# Altium integrated library Microchip Microcontroller 8-Bit PIC14.IntLib: 21 symbols
Pins are listed as number, name and electrical type; pins without a type are passive.

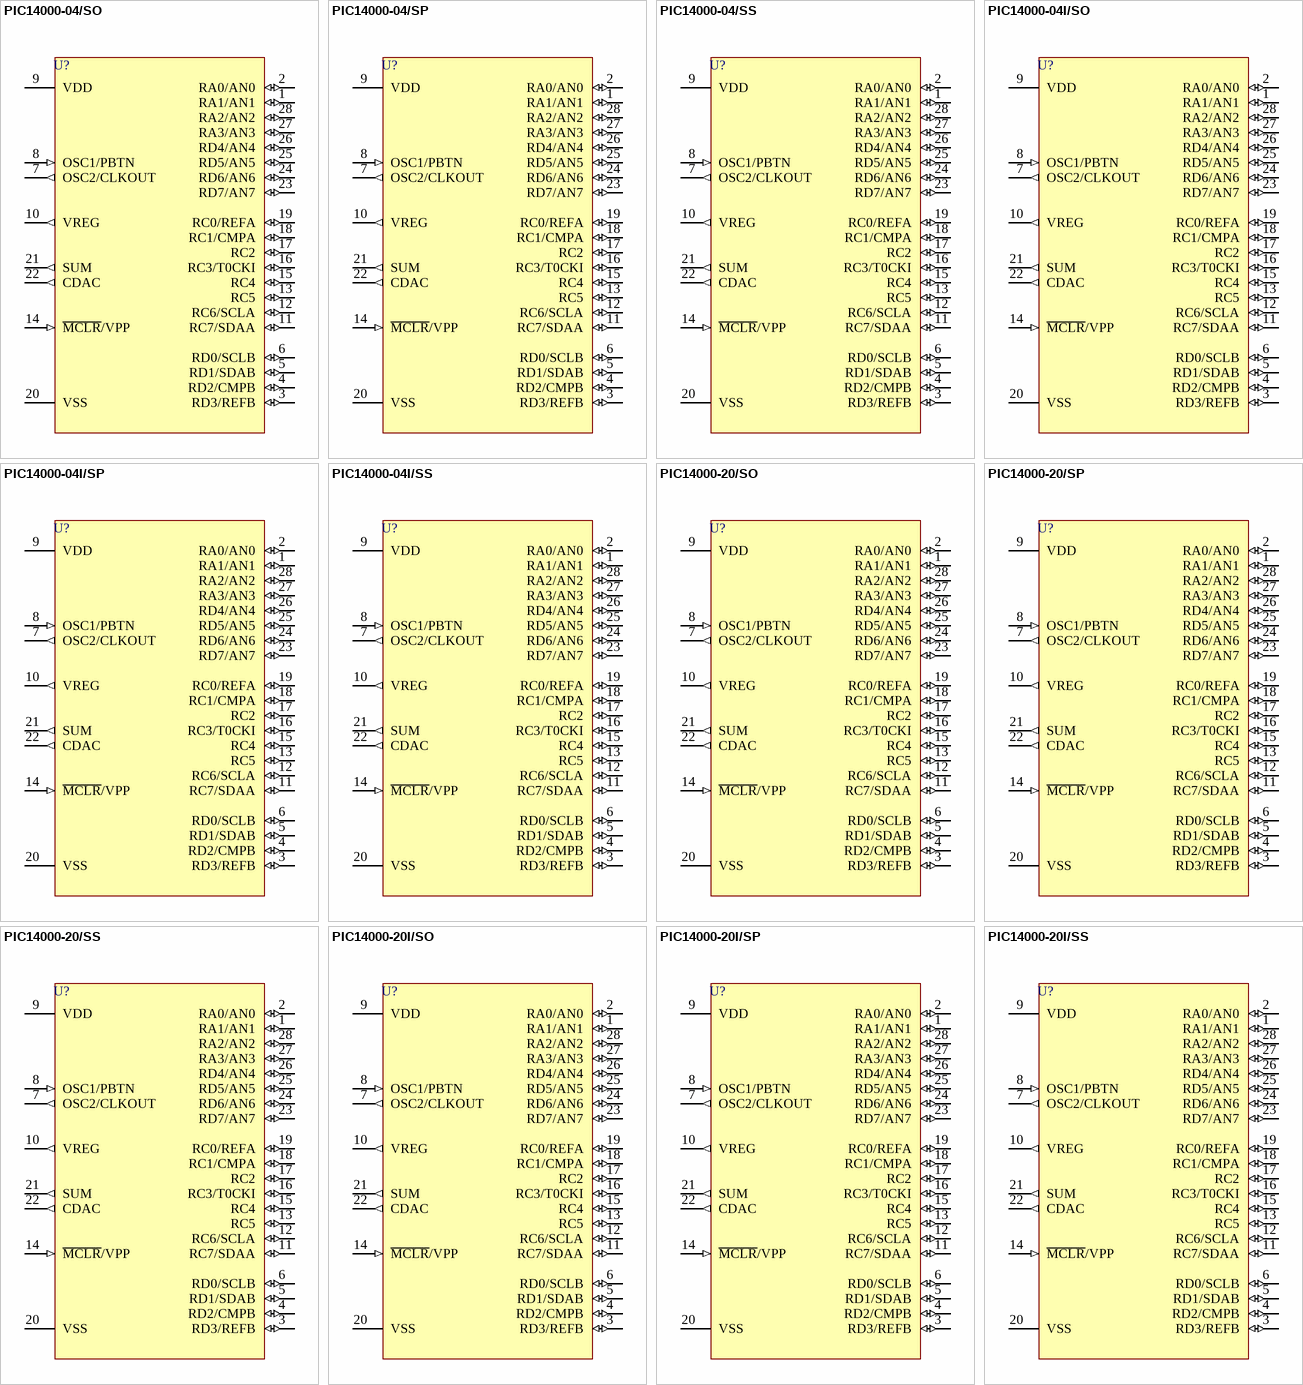
[diagram p0: symbols PIC14000-04/SO to PIC14000-20I/SS]

## PIC14000-04/SO
designator U?
Programmable OTP-Based 8-Bit Mixed Signal Microcontroller, 4 MHz, 28-Pin SOIC, Commercial Temperature; Published: 11-Oct-2004; LatestRevisionDate: 13-Apr-2006; LatestRevisionNote: IPC-7351 Footprint Added.; DatasheetVersion: DS40122B_1996; PackageVersion: 2005; PackageReference: SOIC300-28; Publisher: Altium Limited; PackageDescription: 28-Pin Small Outline Integrated Circuit 1.27 mm Pitch; Code_JEDEC: MS-013; ComponentLink1Description: Manufacturer Link; ComponentLink1URL: http://www.microchip.com; ComponentLink2Description: Datasheet; ComponentLink2URL: http://ww1.microchip.com/downloads/en/DeviceDoc/40122b.pdf; ComponentLink3Description: Packaging Specification; ComponentLink3URL: http://ww1.microchip.com/downloads/en/PackagingSpec/00049AD.pdf
footprint SOIC300-28_N (SOIC, 28-Leads, Body 17.9x7.5mm, Pitch 1.27mm, IPC Medium Density)
footprint SOIC300-28_L (SOIC, 28-Leads, Body 17.9x7.5mm, Pitch 1.27mm, IPC High Density)
footprint SOIC300-28_M (SOIC, 28-Leads, Body 17.9x7.5mm, Pitch 1.27mm, IPC Low Density)
3D model SOIC300-28 (28-Pin Small Outline Integrated Circuit 1.27 mm Pitch)
pins: 1 RA1/AN1 (io), 2 RA0/AN0 (io), 3 RD3/REFB (io), 4 RD2/CMPB (io), 5 RD1/SDAB (io), 6 RD0/SCLB (io), 7 OSC2/CLKOUT (out), 8 OSC1/PBTN (in), 9 VDD (power), 10 VREG (out), 11 RC7/SDAA (io), 12 RC6/SCLA (io), 13 RC5 (io), 14 ~{MCLR}/VPP (in), 15 RC4 (io), 16 RC3/T0CKI (io), 17 RC2 (io), 18 RC1/CMPA (io), 19 RC0/REFA (io), 20 VSS (power), 21 SUM (out), 22 CDAC (out), 23 RD7/AN7 (io), 24 RD6/AN6 (io), 25 RD5/AN5 (io), 26 RD4/AN4 (io), 27 RA3/AN3 (io), 28 RA2/AN2 (io)

## PIC14000-04/SP
designator U?
Programmable OTP-Based 8-Bit Mixed Signal Microcontroller, 4 MHz, 28-Pin PDIP, Commercial Temperature; Published: 11-Oct-2004; LatestRevisionDate: 04-Mar-2005; LatestRevisionNote: Stylized 3D Model Added.; DatasheetVersion: DS40122B_1996; PackageVersion: 2003; PackageReference: PDIP300-28; Publisher: Altium Limited; PackageDescription: DIP, Plastic, Skinny; 28 Leads; Row Spacing 7.62 mm; Pitch 2.54 mm; Code_JEDEC: MO-095; ComponentLink1Description: Manufacturer Link; ComponentLink1URL: http://www.microchip.com; ComponentLink2Description: Datasheet; ComponentLink2URL: http://ww1.microchip.com/downloads/en/DeviceDoc/40122b.pdf; ComponentLink3Description: Packaging Specification; ComponentLink3URL: http://ww1.microchip.com/downloads/en/PackagingSpec/00049AD.pdf
footprint PDIP300-28 (DIP, Plastic, Skinny; 28 Leads; Row Spacing 7.62 mm; Pitch 2.54 mm)
3D model PDIP300-28 (DIP, Plastic, Skinny; 28 Leads; Row Spacing 7.62 mm; Pitch 2.54 mm)
pins: 1 RA1/AN1 (io), 2 RA0/AN0 (io), 3 RD3/REFB (io), 4 RD2/CMPB (io), 5 RD1/SDAB (io), 6 RD0/SCLB (io), 7 OSC2/CLKOUT (out), 8 OSC1/PBTN (in), 9 VDD (power), 10 VREG (out), 11 RC7/SDAA (io), 12 RC6/SCLA (io), 13 RC5 (io), 14 ~{MCLR}/VPP (in), 15 RC4 (io), 16 RC3/T0CKI (io), 17 RC2 (io), 18 RC1/CMPA (io), 19 RC0/REFA (io), 20 VSS (power), 21 SUM (out), 22 CDAC (out), 23 RD7/AN7 (io), 24 RD6/AN6 (io), 25 RD5/AN5 (io), 26 RD4/AN4 (io), 27 RA3/AN3 (io), 28 RA2/AN2 (io)

## PIC14000-04/SS
designator U?
Programmable OTP-Based 8-Bit Mixed Signal Microcontroller, 4 MHz, 28-Pin SSOP, Commercial Temperature; Published: 11-Oct-2004; LatestRevisionDate: 04-Mar-2005; LatestRevisionNote: Stylized 3D Model Added.; DatasheetVersion: DS40122B_1996; PackageVersion: 2005; PackageReference: SSOP-28; Publisher: Altium Limited; PackageDescription: SSOP, Plastic; 28 Leads; Body Width 5.2 mm; Pitch 0.65 mm; Code_JEDEC: MS-150; ComponentLink1Description: Manufacturer Link; ComponentLink1URL: http://www.microchip.com; ComponentLink2Description: Datasheet; ComponentLink2URL: http://ww1.microchip.com/downloads/en/DeviceDoc/40122b.pdf; ComponentLink3Description: Packaging Specification; ComponentLink3URL: http://ww1.microchip.com/downloads/en/PackagingSpec/00049AD.pdf
footprint SSOP-28 (SSOP, Plastic; 28 Leads; Body Width 5.2 mm; Pitch 0.65 mm)
3D model SSOP-28 (SSOP, Plastic; 28 Leads; Body Width 5.2 mm; Pitch 0.65 mm)
pins: 1 RA1/AN1 (io), 2 RA0/AN0 (io), 3 RD3/REFB (io), 4 RD2/CMPB (io), 5 RD1/SDAB (io), 6 RD0/SCLB (io), 7 OSC2/CLKOUT (out), 8 OSC1/PBTN (in), 9 VDD (power), 10 VREG (out), 11 RC7/SDAA (io), 12 RC6/SCLA (io), 13 RC5 (io), 14 ~{MCLR}/VPP (in), 15 RC4 (io), 16 RC3/T0CKI (io), 17 RC2 (io), 18 RC1/CMPA (io), 19 RC0/REFA (io), 20 VSS (power), 21 SUM (out), 22 CDAC (out), 23 RD7/AN7 (io), 24 RD6/AN6 (io), 25 RD5/AN5 (io), 26 RD4/AN4 (io), 27 RA3/AN3 (io), 28 RA2/AN2 (io)

## PIC14000-04I/SO
designator U?
Programmable OTP-Based 8-Bit Mixed Signal Microcontroller, 4 MHz, 28-Pin SOIC, Industrial Temperature; Published: 11-Oct-2004; LatestRevisionDate: 13-Apr-2006; LatestRevisionNote: IPC-7351 Footprint Added.; DatasheetVersion: DS40122B_1996; PackageVersion: 2005; PackageReference: SOIC300-28; Publisher: Altium Limited; PackageDescription: 28-Pin Small Outline Integrated Circuit 1.27 mm Pitch; Code_JEDEC: MS-013; ComponentLink1Description: Manufacturer Link; ComponentLink1URL: http://www.microchip.com; ComponentLink2Description: Datasheet; ComponentLink2URL: http://ww1.microchip.com/downloads/en/DeviceDoc/40122b.pdf; ComponentLink3Description: Packaging Specification; ComponentLink3URL: http://ww1.microchip.com/downloads/en/PackagingSpec/00049AD.pdf
footprint SOIC300-28_N (SOIC, 28-Leads, Body 17.9x7.5mm, Pitch 1.27mm, IPC Medium Density)
footprint SOIC300-28_L (SOIC, 28-Leads, Body 17.9x7.5mm, Pitch 1.27mm, IPC High Density)
footprint SOIC300-28_M (SOIC, 28-Leads, Body 17.9x7.5mm, Pitch 1.27mm, IPC Low Density)
3D model SOIC300-28 (28-Pin Small Outline Integrated Circuit 1.27 mm Pitch)
pins: 1 RA1/AN1 (io), 2 RA0/AN0 (io), 3 RD3/REFB (io), 4 RD2/CMPB (io), 5 RD1/SDAB (io), 6 RD0/SCLB (io), 7 OSC2/CLKOUT (out), 8 OSC1/PBTN (in), 9 VDD (power), 10 VREG (out), 11 RC7/SDAA (io), 12 RC6/SCLA (io), 13 RC5 (io), 14 ~{MCLR}/VPP (in), 15 RC4 (io), 16 RC3/T0CKI (io), 17 RC2 (io), 18 RC1/CMPA (io), 19 RC0/REFA (io), 20 VSS (power), 21 SUM (out), 22 CDAC (out), 23 RD7/AN7 (io), 24 RD6/AN6 (io), 25 RD5/AN5 (io), 26 RD4/AN4 (io), 27 RA3/AN3 (io), 28 RA2/AN2 (io)

## PIC14000-04I/SP
designator U?
Programmable OTP-Based 8-Bit Mixed Signal Microcontroller, 4 MHz, 28-Pin PDIP, Industrial Temperature; Published: 11-Oct-2004; LatestRevisionDate: 04-Mar-2005; LatestRevisionNote: Stylized 3D Model Added.; DatasheetVersion: DS40122B_1996; PackageVersion: 2003; PackageReference: PDIP300-28; Publisher: Altium Limited; PackageDescription: DIP, Plastic, Skinny; 28 Leads; Row Spacing 7.62 mm; Pitch 2.54 mm; Code_JEDEC: MO-095; ComponentLink1Description: Manufacturer Link; ComponentLink1URL: http://www.microchip.com; ComponentLink2Description: Datasheet; ComponentLink2URL: http://ww1.microchip.com/downloads/en/DeviceDoc/40122b.pdf; ComponentLink3Description: Packaging Specification; ComponentLink3URL: http://ww1.microchip.com/downloads/en/PackagingSpec/00049AD.pdf
footprint PDIP300-28 (DIP, Plastic, Skinny; 28 Leads; Row Spacing 7.62 mm; Pitch 2.54 mm)
3D model PDIP300-28 (DIP, Plastic, Skinny; 28 Leads; Row Spacing 7.62 mm; Pitch 2.54 mm)
pins: 1 RA1/AN1 (io), 2 RA0/AN0 (io), 3 RD3/REFB (io), 4 RD2/CMPB (io), 5 RD1/SDAB (io), 6 RD0/SCLB (io), 7 OSC2/CLKOUT (out), 8 OSC1/PBTN (in), 9 VDD (power), 10 VREG (out), 11 RC7/SDAA (io), 12 RC6/SCLA (io), 13 RC5 (io), 14 ~{MCLR}/VPP (in), 15 RC4 (io), 16 RC3/T0CKI (io), 17 RC2 (io), 18 RC1/CMPA (io), 19 RC0/REFA (io), 20 VSS (power), 21 SUM (out), 22 CDAC (out), 23 RD7/AN7 (io), 24 RD6/AN6 (io), 25 RD5/AN5 (io), 26 RD4/AN4 (io), 27 RA3/AN3 (io), 28 RA2/AN2 (io)

## PIC14000-04I/SS
designator U?
Programmable OTP-Based 8-Bit Mixed Signal Microcontroller, 4 MHz, 28-Pin SSOP, Industrial Temperature; Published: 11-Oct-2004; LatestRevisionDate: 04-Mar-2005; LatestRevisionNote: Stylized 3D Model Added.; DatasheetVersion: DS40122B_1996; PackageVersion: 2005; PackageReference: SSOP-28; Publisher: Altium Limited; PackageDescription: SSOP, Plastic; 28 Leads; Body Width 5.2 mm; Pitch 0.65 mm; Code_JEDEC: MS-150; ComponentLink1Description: Manufacturer Link; ComponentLink1URL: http://www.microchip.com; ComponentLink2Description: Datasheet; ComponentLink2URL: http://ww1.microchip.com/downloads/en/DeviceDoc/40122b.pdf; ComponentLink3Description: Packaging Specification; ComponentLink3URL: http://ww1.microchip.com/downloads/en/PackagingSpec/00049AD.pdf
footprint SSOP-28 (SSOP, Plastic; 28 Leads; Body Width 5.2 mm; Pitch 0.65 mm)
3D model SSOP-28 (SSOP, Plastic; 28 Leads; Body Width 5.2 mm; Pitch 0.65 mm)
pins: 1 RA1/AN1 (io), 2 RA0/AN0 (io), 3 RD3/REFB (io), 4 RD2/CMPB (io), 5 RD1/SDAB (io), 6 RD0/SCLB (io), 7 OSC2/CLKOUT (out), 8 OSC1/PBTN (in), 9 VDD (power), 10 VREG (out), 11 RC7/SDAA (io), 12 RC6/SCLA (io), 13 RC5 (io), 14 ~{MCLR}/VPP (in), 15 RC4 (io), 16 RC3/T0CKI (io), 17 RC2 (io), 18 RC1/CMPA (io), 19 RC0/REFA (io), 20 VSS (power), 21 SUM (out), 22 CDAC (out), 23 RD7/AN7 (io), 24 RD6/AN6 (io), 25 RD5/AN5 (io), 26 RD4/AN4 (io), 27 RA3/AN3 (io), 28 RA2/AN2 (io)

## PIC14000-20/SO
designator U?
Programmable OTP-Based 8-Bit Mixed Signal Microcontroller, 20 MHz, 28-Pin SOIC, Commercial Temperature; Published: 11-Oct-2004; LatestRevisionDate: 13-Apr-2006; LatestRevisionNote: IPC-7351 Footprint Added.; DatasheetVersion: DS40122B_1996; PackageVersion: 2005; PackageReference: SOIC300-28; Publisher: Altium Limited; PackageDescription: 28-Pin Small Outline Integrated Circuit 1.27 mm Pitch; Code_JEDEC: MS-013; ComponentLink1Description: Manufacturer Link; ComponentLink1URL: http://www.microchip.com; ComponentLink2Description: Datasheet; ComponentLink2URL: http://ww1.microchip.com/downloads/en/DeviceDoc/40122b.pdf; ComponentLink3Description: Packaging Specification; ComponentLink3URL: http://ww1.microchip.com/downloads/en/PackagingSpec/00049AD.pdf
footprint SOIC300-28_N (SOIC, 28-Leads, Body 17.9x7.5mm, Pitch 1.27mm, IPC Medium Density)
footprint SOIC300-28_L (SOIC, 28-Leads, Body 17.9x7.5mm, Pitch 1.27mm, IPC High Density)
footprint SOIC300-28_M (SOIC, 28-Leads, Body 17.9x7.5mm, Pitch 1.27mm, IPC Low Density)
3D model SOIC300-28 (28-Pin Small Outline Integrated Circuit 1.27 mm Pitch)
pins: 1 RA1/AN1 (io), 2 RA0/AN0 (io), 3 RD3/REFB (io), 4 RD2/CMPB (io), 5 RD1/SDAB (io), 6 RD0/SCLB (io), 7 OSC2/CLKOUT (out), 8 OSC1/PBTN (in), 9 VDD (power), 10 VREG (out), 11 RC7/SDAA (io), 12 RC6/SCLA (io), 13 RC5 (io), 14 ~{MCLR}/VPP (in), 15 RC4 (io), 16 RC3/T0CKI (io), 17 RC2 (io), 18 RC1/CMPA (io), 19 RC0/REFA (io), 20 VSS (power), 21 SUM (out), 22 CDAC (out), 23 RD7/AN7 (io), 24 RD6/AN6 (io), 25 RD5/AN5 (io), 26 RD4/AN4 (io), 27 RA3/AN3 (io), 28 RA2/AN2 (io)

## PIC14000-20/SP
designator U?
Programmable OTP-Based 8-Bit Mixed Signal Microcontroller, 20 MHz, 28-Pin PDIP, Commercial Temperature; Published: 11-Oct-2004; LatestRevisionDate: 04-Mar-2005; LatestRevisionNote: Stylized 3D Model Added.; DatasheetVersion: DS40122B_1996; PackageVersion: 2003; PackageReference: PDIP300-28; Publisher: Altium Limited; PackageDescription: DIP, Plastic, Skinny; 28 Leads; Row Spacing 7.62 mm; Pitch 2.54 mm; Code_JEDEC: MO-095; ComponentLink1Description: Manufacturer Link; ComponentLink1URL: http://www.microchip.com; ComponentLink2Description: Datasheet; ComponentLink2URL: http://ww1.microchip.com/downloads/en/DeviceDoc/40122b.pdf; ComponentLink3Description: Packaging Specification; ComponentLink3URL: http://ww1.microchip.com/downloads/en/PackagingSpec/00049AD.pdf
footprint PDIP300-28 (DIP, Plastic, Skinny; 28 Leads; Row Spacing 7.62 mm; Pitch 2.54 mm)
3D model PDIP300-28 (DIP, Plastic, Skinny; 28 Leads; Row Spacing 7.62 mm; Pitch 2.54 mm)
pins: 1 RA1/AN1 (io), 2 RA0/AN0 (io), 3 RD3/REFB (io), 4 RD2/CMPB (io), 5 RD1/SDAB (io), 6 RD0/SCLB (io), 7 OSC2/CLKOUT (out), 8 OSC1/PBTN (in), 9 VDD (power), 10 VREG (out), 11 RC7/SDAA (io), 12 RC6/SCLA (io), 13 RC5 (io), 14 ~{MCLR}/VPP (in), 15 RC4 (io), 16 RC3/T0CKI (io), 17 RC2 (io), 18 RC1/CMPA (io), 19 RC0/REFA (io), 20 VSS (power), 21 SUM (out), 22 CDAC (out), 23 RD7/AN7 (io), 24 RD6/AN6 (io), 25 RD5/AN5 (io), 26 RD4/AN4 (io), 27 RA3/AN3 (io), 28 RA2/AN2 (io)

## PIC14000-20/SS
designator U?
Programmable OTP-Based 8-Bit Mixed Signal Microcontroller, 20 MHz, 28-Pin SSOP, Commercial Temperature; Published: 11-Oct-2004; LatestRevisionDate: 04-Mar-2005; LatestRevisionNote: Stylized 3D Model Added.; DatasheetVersion: DS40122B_1996; PackageVersion: 2005; PackageReference: SSOP-28; Publisher: Altium Limited; PackageDescription: SSOP, Plastic; 28 Leads; Body Width 5.2 mm; Pitch 0.65 mm; Code_JEDEC: MS-150; ComponentLink1Description: Manufacturer Link; ComponentLink1URL: http://www.microchip.com; ComponentLink2Description: Datasheet; ComponentLink2URL: http://ww1.microchip.com/downloads/en/DeviceDoc/40122b.pdf; ComponentLink3Description: Packaging Specification; ComponentLink3URL: http://ww1.microchip.com/downloads/en/PackagingSpec/00049AD.pdf
footprint SSOP-28 (SSOP, Plastic; 28 Leads; Body Width 5.2 mm; Pitch 0.65 mm)
3D model SSOP-28 (SSOP, Plastic; 28 Leads; Body Width 5.2 mm; Pitch 0.65 mm)
pins: 1 RA1/AN1 (io), 2 RA0/AN0 (io), 3 RD3/REFB (io), 4 RD2/CMPB (io), 5 RD1/SDAB (io), 6 RD0/SCLB (io), 7 OSC2/CLKOUT (out), 8 OSC1/PBTN (in), 9 VDD (power), 10 VREG (out), 11 RC7/SDAA (io), 12 RC6/SCLA (io), 13 RC5 (io), 14 ~{MCLR}/VPP (in), 15 RC4 (io), 16 RC3/T0CKI (io), 17 RC2 (io), 18 RC1/CMPA (io), 19 RC0/REFA (io), 20 VSS (power), 21 SUM (out), 22 CDAC (out), 23 RD7/AN7 (io), 24 RD6/AN6 (io), 25 RD5/AN5 (io), 26 RD4/AN4 (io), 27 RA3/AN3 (io), 28 RA2/AN2 (io)

## PIC14000-20I/SO
designator U?
Programmable OTP-Based 8-Bit Mixed Signal Microcontroller, 20 MHz, 28-Pin SOIC, Industrial Temperature; Published: 11-Oct-2004; LatestRevisionDate: 13-Apr-2006; LatestRevisionNote: IPC-7351 Footprint Added.; DatasheetVersion: DS40122B_1996; PackageVersion: 2005; PackageReference: SOIC300-28; Publisher: Altium Limited; PackageDescription: 28-Pin Small Outline Integrated Circuit 1.27 mm Pitch; Code_JEDEC: MS-013; ComponentLink1Description: Manufacturer Link; ComponentLink1URL: http://www.microchip.com; ComponentLink2Description: Datasheet; ComponentLink2URL: http://ww1.microchip.com/downloads/en/DeviceDoc/40122b.pdf; ComponentLink3Description: Packaging Specification; ComponentLink3URL: http://ww1.microchip.com/downloads/en/PackagingSpec/00049AD.pdf
footprint SOIC300-28_N (SOIC, 28-Leads, Body 17.9x7.5mm, Pitch 1.27mm, IPC Medium Density)
footprint SOIC300-28_L (SOIC, 28-Leads, Body 17.9x7.5mm, Pitch 1.27mm, IPC High Density)
footprint SOIC300-28_M (SOIC, 28-Leads, Body 17.9x7.5mm, Pitch 1.27mm, IPC Low Density)
3D model SOIC300-28 (28-Pin Small Outline Integrated Circuit 1.27 mm Pitch)
pins: 1 RA1/AN1 (io), 2 RA0/AN0 (io), 3 RD3/REFB (io), 4 RD2/CMPB (io), 5 RD1/SDAB (io), 6 RD0/SCLB (io), 7 OSC2/CLKOUT (out), 8 OSC1/PBTN (in), 9 VDD (power), 10 VREG (out), 11 RC7/SDAA (io), 12 RC6/SCLA (io), 13 RC5 (io), 14 ~{MCLR}/VPP (in), 15 RC4 (io), 16 RC3/T0CKI (io), 17 RC2 (io), 18 RC1/CMPA (io), 19 RC0/REFA (io), 20 VSS (power), 21 SUM (out), 22 CDAC (out), 23 RD7/AN7 (io), 24 RD6/AN6 (io), 25 RD5/AN5 (io), 26 RD4/AN4 (io), 27 RA3/AN3 (io), 28 RA2/AN2 (io)

## PIC14000-20I/SP
designator U?
Programmable OTP-Based 8-Bit Mixed Signal Microcontroller, 20 MHz, 28-Pin PDIP, Industrial Temperature; Published: 11-Oct-2004; LatestRevisionDate: 04-Mar-2005; LatestRevisionNote: Stylized 3D Model Added.; DatasheetVersion: DS40122B_1996; PackageVersion: 2003; PackageReference: PDIP300-28; Publisher: Altium Limited; PackageDescription: DIP, Plastic, Skinny; 28 Leads; Row Spacing 7.62 mm; Pitch 2.54 mm; Code_JEDEC: MO-095; ComponentLink1Description: Manufacturer Link; ComponentLink1URL: http://www.microchip.com; ComponentLink2Description: Datasheet; ComponentLink2URL: http://ww1.microchip.com/downloads/en/DeviceDoc/40122b.pdf; ComponentLink3Description: Packaging Specification; ComponentLink3URL: http://ww1.microchip.com/downloads/en/PackagingSpec/00049AD.pdf
footprint PDIP300-28 (DIP, Plastic, Skinny; 28 Leads; Row Spacing 7.62 mm; Pitch 2.54 mm)
3D model PDIP300-28 (DIP, Plastic, Skinny; 28 Leads; Row Spacing 7.62 mm; Pitch 2.54 mm)
pins: 1 RA1/AN1 (io), 2 RA0/AN0 (io), 3 RD3/REFB (io), 4 RD2/CMPB (io), 5 RD1/SDAB (io), 6 RD0/SCLB (io), 7 OSC2/CLKOUT (out), 8 OSC1/PBTN (in), 9 VDD (power), 10 VREG (out), 11 RC7/SDAA (io), 12 RC6/SCLA (io), 13 RC5 (io), 14 ~{MCLR}/VPP (in), 15 RC4 (io), 16 RC3/T0CKI (io), 17 RC2 (io), 18 RC1/CMPA (io), 19 RC0/REFA (io), 20 VSS (power), 21 SUM (out), 22 CDAC (out), 23 RD7/AN7 (io), 24 RD6/AN6 (io), 25 RD5/AN5 (io), 26 RD4/AN4 (io), 27 RA3/AN3 (io), 28 RA2/AN2 (io)

## PIC14000-20I/SS
designator U?
Programmable OTP-Based 8-Bit Mixed Signal Microcontroller, 20 MHz, 28-Pin SSOP, Industrial Temperature; Published: 11-Oct-2004; LatestRevisionDate: 04-Mar-2005; LatestRevisionNote: Stylized 3D Model Added.; DatasheetVersion: DS40122B_1996; PackageVersion: 2005; PackageReference: SSOP-28; Publisher: Altium Limited; PackageDescription: SSOP, Plastic; 28 Leads; Body Width 5.2 mm; Pitch 0.65 mm; Code_JEDEC: MS-150; ComponentLink1Description: Manufacturer Link; ComponentLink1URL: http://www.microchip.com; ComponentLink2Description: Datasheet; ComponentLink2URL: http://ww1.microchip.com/downloads/en/DeviceDoc/40122b.pdf; ComponentLink3Description: Packaging Specification; ComponentLink3URL: http://ww1.microchip.com/downloads/en/PackagingSpec/00049AD.pdf
footprint SSOP-28 (SSOP, Plastic; 28 Leads; Body Width 5.2 mm; Pitch 0.65 mm)
3D model SSOP-28 (SSOP, Plastic; 28 Leads; Body Width 5.2 mm; Pitch 0.65 mm)
pins: 1 RA1/AN1 (io), 2 RA0/AN0 (io), 3 RD3/REFB (io), 4 RD2/CMPB (io), 5 RD1/SDAB (io), 6 RD0/SCLB (io), 7 OSC2/CLKOUT (out), 8 OSC1/PBTN (in), 9 VDD (power), 10 VREG (out), 11 RC7/SDAA (io), 12 RC6/SCLA (io), 13 RC5 (io), 14 ~{MCLR}/VPP (in), 15 RC4 (io), 16 RC3/T0CKI (io), 17 RC2 (io), 18 RC1/CMPA (io), 19 RC0/REFA (io), 20 VSS (power), 21 SUM (out), 22 CDAC (out), 23 RD7/AN7 (io), 24 RD6/AN6 (io), 25 RD5/AN5 (io), 26 RD4/AN4 (io), 27 RA3/AN3 (io), 28 RA2/AN2 (io)

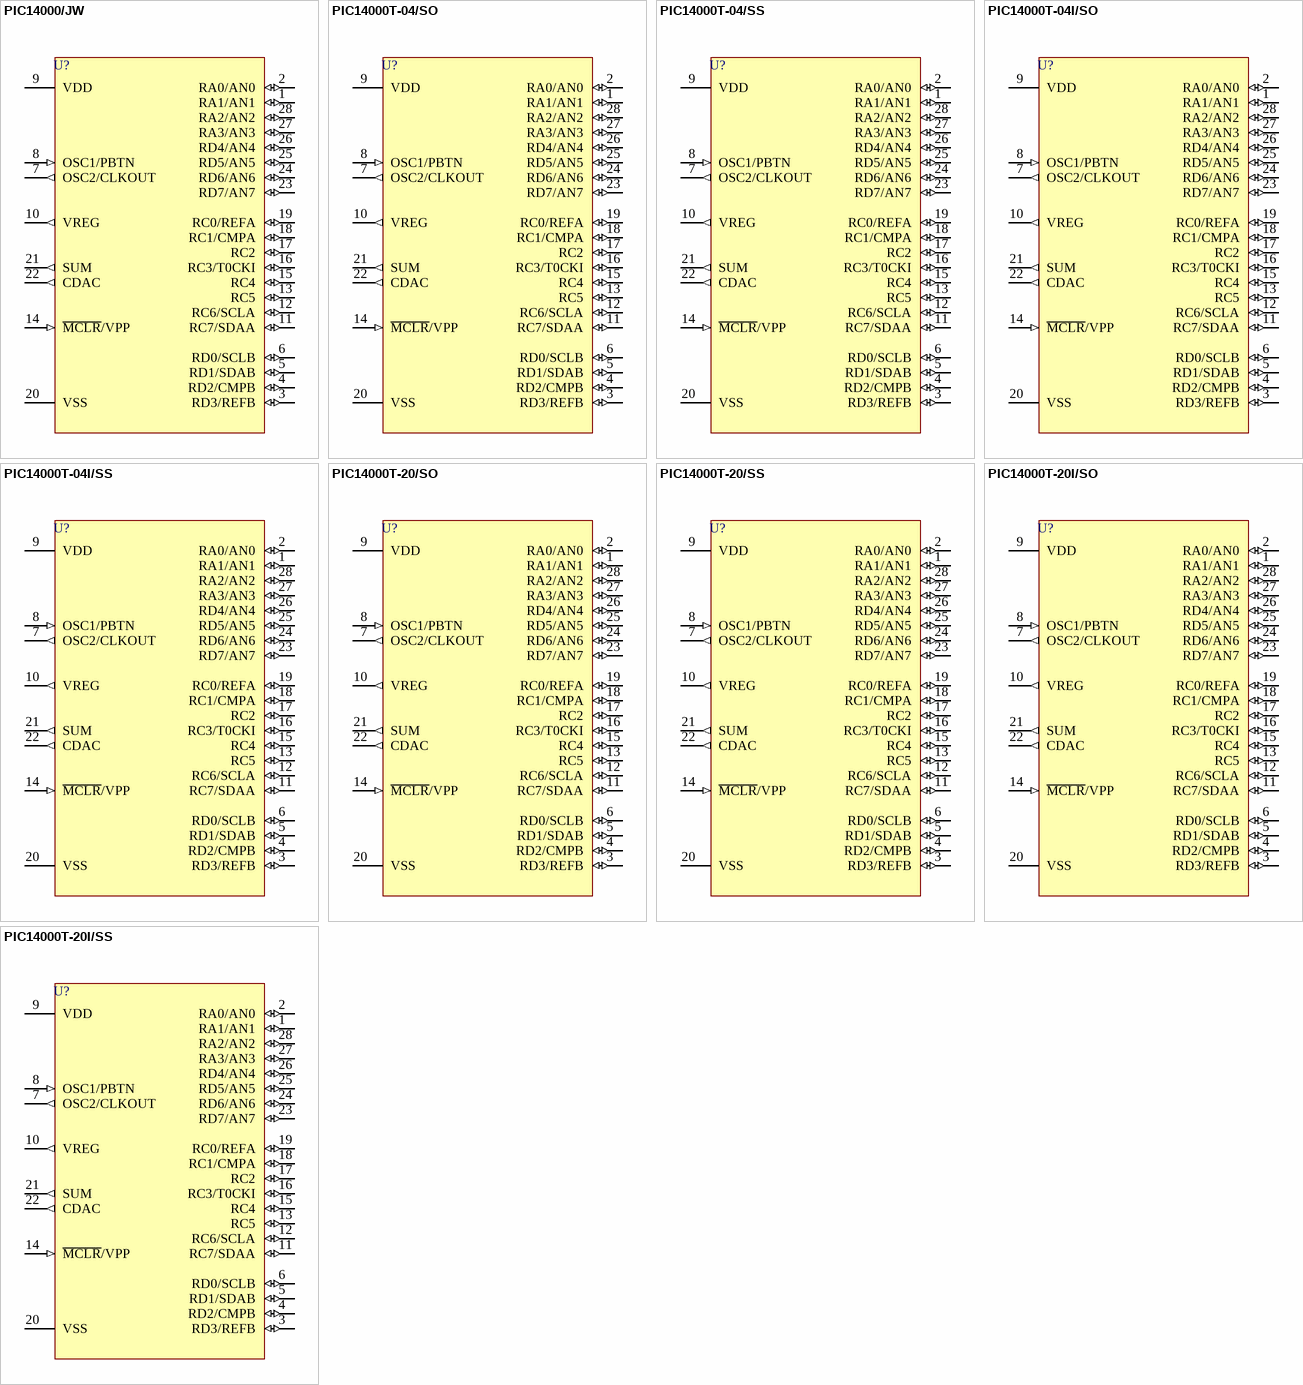
[diagram p1: symbols PIC14000/JW to PIC14000T-20I/SS]

## PIC14000/JW
designator U?
Programmable OTP-Based 8-Bit Mixed Signal Microcontroller, 28-Pin CERDIP, Commercial Temperature; Published: 11-Oct-2004; LatestRevisionDate: 04-Mar-2005; LatestRevisionNote: Stylized 3D Model Added.; DatasheetVersion: DS40122B_1996; PackageVersion: 2005; PackageReference: SideBrazed-28; Publisher: Altium Limited; PackageDescription: DIP, Side Brazed, Window; 28 Leads; Row Spacing 7.62 mm; Pitch 2.54 mm; Code_JEDEC: MS-015; ComponentLink1Description: Manufacturer Link; ComponentLink1URL: http://www.microchip.com; ComponentLink2Description: Datasheet; ComponentLink2URL: http://ww1.microchip.com/downloads/en/DeviceDoc/40122b.pdf; ComponentLink3Description: Packaging Specification; ComponentLink3URL: http://ww1.microchip.com/downloads/en/PackagingSpec/00049AD.pdf
footprint SideBrazed-28 (DIP, Side Brazed, Window; 28 Leads; Row Spacing 7.62 mm; Pitch 2.54 mm)
3D model SideBrazed-28 (DIP, Side Brazed, Window; 28 Leads; Row Spacing 7.62 mm; Pitch 2.54 mm)
pins: 1 RA1/AN1 (io), 2 RA0/AN0 (io), 3 RD3/REFB (io), 4 RD2/CMPB (io), 5 RD1/SDAB (io), 6 RD0/SCLB (io), 7 OSC2/CLKOUT (out), 8 OSC1/PBTN (in), 9 VDD (power), 10 VREG (out), 11 RC7/SDAA (io), 12 RC6/SCLA (io), 13 RC5 (io), 14 ~{MCLR}/VPP (in), 15 RC4 (io), 16 RC3/T0CKI (io), 17 RC2 (io), 18 RC1/CMPA (io), 19 RC0/REFA (io), 20 VSS (power), 21 SUM (out), 22 CDAC (out), 23 RD7/AN7 (io), 24 RD6/AN6 (io), 25 RD5/AN5 (io), 26 RD4/AN4 (io), 27 RA3/AN3 (io), 28 RA2/AN2 (io)

## PIC14000T-04/SO
designator U?
Programmable OTP-Based 8-Bit Mixed Signal Microcontroller, 4 MHz, 28-Pin SOIC, Commercial Temperature, Tape and Reel; Published: 11-Oct-2004; LatestRevisionDate: 13-Apr-2006; LatestRevisionNote: IPC-7351 Footprint Added.; DatasheetVersion: DS40122B_1996; PackageVersion: 2005; PackageReference: SOIC300-28; Publisher: Altium Limited; PackageDescription: 28-Pin Small Outline Integrated Circuit 1.27 mm Pitch; Code_JEDEC: MS-013; ComponentLink1Description: Manufacturer Link; ComponentLink1URL: http://www.microchip.com; ComponentLink2Description: Datasheet; ComponentLink2URL: http://ww1.microchip.com/downloads/en/DeviceDoc/40122b.pdf; ComponentLink3Description: Packaging Specification; ComponentLink3URL: http://ww1.microchip.com/downloads/en/PackagingSpec/00049AD.pdf
footprint SOIC300-28_N (SOIC, 28-Leads, Body 17.9x7.5mm, Pitch 1.27mm, IPC Medium Density)
footprint SOIC300-28_L (SOIC, 28-Leads, Body 17.9x7.5mm, Pitch 1.27mm, IPC High Density)
footprint SOIC300-28_M (SOIC, 28-Leads, Body 17.9x7.5mm, Pitch 1.27mm, IPC Low Density)
3D model SOIC300-28 (28-Pin Small Outline Integrated Circuit 1.27 mm Pitch)
pins: 1 RA1/AN1 (io), 2 RA0/AN0 (io), 3 RD3/REFB (io), 4 RD2/CMPB (io), 5 RD1/SDAB (io), 6 RD0/SCLB (io), 7 OSC2/CLKOUT (out), 8 OSC1/PBTN (in), 9 VDD (power), 10 VREG (out), 11 RC7/SDAA (io), 12 RC6/SCLA (io), 13 RC5 (io), 14 ~{MCLR}/VPP (in), 15 RC4 (io), 16 RC3/T0CKI (io), 17 RC2 (io), 18 RC1/CMPA (io), 19 RC0/REFA (io), 20 VSS (power), 21 SUM (out), 22 CDAC (out), 23 RD7/AN7 (io), 24 RD6/AN6 (io), 25 RD5/AN5 (io), 26 RD4/AN4 (io), 27 RA3/AN3 (io), 28 RA2/AN2 (io)

## PIC14000T-04/SS
designator U?
Programmable OTP-Based 8-Bit Mixed Signal Microcontroller, 4 MHz, 28-Pin SSOP, Commercial Temperature, Tape and Reel; Published: 11-Oct-2004; LatestRevisionDate: 04-Mar-2005; LatestRevisionNote: Stylized 3D Model Added.; DatasheetVersion: DS40122B_1996; PackageVersion: 2005; PackageReference: SSOP-28; Publisher: Altium Limited; PackageDescription: SSOP, Plastic; 28 Leads; Body Width 5.2 mm; Pitch 0.65 mm; Code_JEDEC: MS-150; ComponentLink1Description: Manufacturer Link; ComponentLink1URL: http://www.microchip.com; ComponentLink2Description: Datasheet; ComponentLink2URL: http://ww1.microchip.com/downloads/en/DeviceDoc/40122b.pdf; ComponentLink3Description: Packaging Specification; ComponentLink3URL: http://ww1.microchip.com/downloads/en/PackagingSpec/00049AD.pdf
footprint SSOP-28 (SSOP, Plastic; 28 Leads; Body Width 5.2 mm; Pitch 0.65 mm)
3D model SSOP-28 (SSOP, Plastic; 28 Leads; Body Width 5.2 mm; Pitch 0.65 mm)
pins: 1 RA1/AN1 (io), 2 RA0/AN0 (io), 3 RD3/REFB (io), 4 RD2/CMPB (io), 5 RD1/SDAB (io), 6 RD0/SCLB (io), 7 OSC2/CLKOUT (out), 8 OSC1/PBTN (in), 9 VDD (power), 10 VREG (out), 11 RC7/SDAA (io), 12 RC6/SCLA (io), 13 RC5 (io), 14 ~{MCLR}/VPP (in), 15 RC4 (io), 16 RC3/T0CKI (io), 17 RC2 (io), 18 RC1/CMPA (io), 19 RC0/REFA (io), 20 VSS (power), 21 SUM (out), 22 CDAC (out), 23 RD7/AN7 (io), 24 RD6/AN6 (io), 25 RD5/AN5 (io), 26 RD4/AN4 (io), 27 RA3/AN3 (io), 28 RA2/AN2 (io)

## PIC14000T-04I/SO
designator U?
Programmable OTP-Based 8-Bit Mixed Signal Microcontroller, 4 MHz, 28-Pin SOIC, Industrial Temperature, Tape and Reel; Published: 11-Oct-2004; LatestRevisionDate: 13-Apr-2006; LatestRevisionNote: IPC-7351 Footprint Added.; DatasheetVersion: DS40122B_1996; PackageVersion: 2005; PackageReference: SOIC300-28; Publisher: Altium Limited; PackageDescription: 28-Pin Small Outline Integrated Circuit 1.27 mm Pitch; Code_JEDEC: MS-013; ComponentLink1Description: Manufacturer Link; ComponentLink1URL: http://www.microchip.com; ComponentLink2Description: Datasheet; ComponentLink2URL: http://ww1.microchip.com/downloads/en/DeviceDoc/40122b.pdf; ComponentLink3Description: Packaging Specification; ComponentLink3URL: http://ww1.microchip.com/downloads/en/PackagingSpec/00049AD.pdf
footprint SOIC300-28_N (SOIC, 28-Leads, Body 17.9x7.5mm, Pitch 1.27mm, IPC Medium Density)
footprint SOIC300-28_L (SOIC, 28-Leads, Body 17.9x7.5mm, Pitch 1.27mm, IPC High Density)
footprint SOIC300-28_M (SOIC, 28-Leads, Body 17.9x7.5mm, Pitch 1.27mm, IPC Low Density)
3D model SOIC300-28 (28-Pin Small Outline Integrated Circuit 1.27 mm Pitch)
pins: 1 RA1/AN1 (io), 2 RA0/AN0 (io), 3 RD3/REFB (io), 4 RD2/CMPB (io), 5 RD1/SDAB (io), 6 RD0/SCLB (io), 7 OSC2/CLKOUT (out), 8 OSC1/PBTN (in), 9 VDD (power), 10 VREG (out), 11 RC7/SDAA (io), 12 RC6/SCLA (io), 13 RC5 (io), 14 ~{MCLR}/VPP (in), 15 RC4 (io), 16 RC3/T0CKI (io), 17 RC2 (io), 18 RC1/CMPA (io), 19 RC0/REFA (io), 20 VSS (power), 21 SUM (out), 22 CDAC (out), 23 RD7/AN7 (io), 24 RD6/AN6 (io), 25 RD5/AN5 (io), 26 RD4/AN4 (io), 27 RA3/AN3 (io), 28 RA2/AN2 (io)

## PIC14000T-04I/SS
designator U?
Programmable OTP-Based 8-Bit Mixed Signal Microcontroller, 4 MHz, 28-Pin SSOP, Industrial Temperature, Tape and Reel; Published: 11-Oct-2004; LatestRevisionDate: 04-Mar-2005; LatestRevisionNote: Stylized 3D Model Added.; DatasheetVersion: DS40122B_1996; PackageVersion: 2005; PackageReference: SSOP-28; Publisher: Altium Limited; PackageDescription: SSOP, Plastic; 28 Leads; Body Width 5.2 mm; Pitch 0.65 mm; Code_JEDEC: MS-150; ComponentLink1Description: Manufacturer Link; ComponentLink1URL: http://www.microchip.com; ComponentLink2Description: Datasheet; ComponentLink2URL: http://ww1.microchip.com/downloads/en/DeviceDoc/40122b.pdf; ComponentLink3Description: Packaging Specification; ComponentLink3URL: http://ww1.microchip.com/downloads/en/PackagingSpec/00049AD.pdf
footprint SSOP-28 (SSOP, Plastic; 28 Leads; Body Width 5.2 mm; Pitch 0.65 mm)
3D model SSOP-28 (SSOP, Plastic; 28 Leads; Body Width 5.2 mm; Pitch 0.65 mm)
pins: 1 RA1/AN1 (io), 2 RA0/AN0 (io), 3 RD3/REFB (io), 4 RD2/CMPB (io), 5 RD1/SDAB (io), 6 RD0/SCLB (io), 7 OSC2/CLKOUT (out), 8 OSC1/PBTN (in), 9 VDD (power), 10 VREG (out), 11 RC7/SDAA (io), 12 RC6/SCLA (io), 13 RC5 (io), 14 ~{MCLR}/VPP (in), 15 RC4 (io), 16 RC3/T0CKI (io), 17 RC2 (io), 18 RC1/CMPA (io), 19 RC0/REFA (io), 20 VSS (power), 21 SUM (out), 22 CDAC (out), 23 RD7/AN7 (io), 24 RD6/AN6 (io), 25 RD5/AN5 (io), 26 RD4/AN4 (io), 27 RA3/AN3 (io), 28 RA2/AN2 (io)

## PIC14000T-20/SO
designator U?
Programmable OTP-Based 8-Bit Mixed Signal Microcontroller, 20 MHz, 28-Pin SOIC, Commercial Temperature, Tape and Reel; Published: 11-Oct-2004; LatestRevisionDate: 13-Apr-2006; LatestRevisionNote: IPC-7351 Footprint Added.; DatasheetVersion: DS40122B_1996; PackageVersion: 2005; PackageReference: SOIC300-28; Publisher: Altium Limited; PackageDescription: 28-Pin Small Outline Integrated Circuit 1.27 mm Pitch; Code_JEDEC: MS-013; ComponentLink1Description: Manufacturer Link; ComponentLink1URL: http://www.microchip.com; ComponentLink2Description: Datasheet; ComponentLink2URL: http://ww1.microchip.com/downloads/en/DeviceDoc/40122b.pdf; ComponentLink3Description: Packaging Specification; ComponentLink3URL: http://ww1.microchip.com/downloads/en/PackagingSpec/00049AD.pdf
footprint SOIC300-28_N (SOIC, 28-Leads, Body 17.9x7.5mm, Pitch 1.27mm, IPC Medium Density)
footprint SOIC300-28_L (SOIC, 28-Leads, Body 17.9x7.5mm, Pitch 1.27mm, IPC High Density)
footprint SOIC300-28_M (SOIC, 28-Leads, Body 17.9x7.5mm, Pitch 1.27mm, IPC Low Density)
3D model SOIC300-28 (28-Pin Small Outline Integrated Circuit 1.27 mm Pitch)
pins: 1 RA1/AN1 (io), 2 RA0/AN0 (io), 3 RD3/REFB (io), 4 RD2/CMPB (io), 5 RD1/SDAB (io), 6 RD0/SCLB (io), 7 OSC2/CLKOUT (out), 8 OSC1/PBTN (in), 9 VDD (power), 10 VREG (out), 11 RC7/SDAA (io), 12 RC6/SCLA (io), 13 RC5 (io), 14 ~{MCLR}/VPP (in), 15 RC4 (io), 16 RC3/T0CKI (io), 17 RC2 (io), 18 RC1/CMPA (io), 19 RC0/REFA (io), 20 VSS (power), 21 SUM (out), 22 CDAC (out), 23 RD7/AN7 (io), 24 RD6/AN6 (io), 25 RD5/AN5 (io), 26 RD4/AN4 (io), 27 RA3/AN3 (io), 28 RA2/AN2 (io)

## PIC14000T-20/SS
designator U?
Programmable OTP-Based 8-Bit Mixed Signal Microcontroller, 20 MHz, 28-Pin SSOP, Commercial Temperature, Tape and Reel; Published: 11-Oct-2004; LatestRevisionDate: 04-Mar-2005; LatestRevisionNote: Stylized 3D Model Added.; DatasheetVersion: DS40122B_1996; PackageVersion: 2005; PackageReference: SSOP-28; Publisher: Altium Limited; PackageDescription: SSOP, Plastic; 28 Leads; Body Width 5.2 mm; Pitch 0.65 mm; Code_JEDEC: MS-150; ComponentLink1Description: Manufacturer Link; ComponentLink1URL: http://www.microchip.com; ComponentLink2Description: Datasheet; ComponentLink2URL: http://ww1.microchip.com/downloads/en/DeviceDoc/40122b.pdf; ComponentLink3Description: Packaging Specification; ComponentLink3URL: http://ww1.microchip.com/downloads/en/PackagingSpec/00049AD.pdf
footprint SSOP-28 (SSOP, Plastic; 28 Leads; Body Width 5.2 mm; Pitch 0.65 mm)
3D model SSOP-28 (SSOP, Plastic; 28 Leads; Body Width 5.2 mm; Pitch 0.65 mm)
pins: 1 RA1/AN1 (io), 2 RA0/AN0 (io), 3 RD3/REFB (io), 4 RD2/CMPB (io), 5 RD1/SDAB (io), 6 RD0/SCLB (io), 7 OSC2/CLKOUT (out), 8 OSC1/PBTN (in), 9 VDD (power), 10 VREG (out), 11 RC7/SDAA (io), 12 RC6/SCLA (io), 13 RC5 (io), 14 ~{MCLR}/VPP (in), 15 RC4 (io), 16 RC3/T0CKI (io), 17 RC2 (io), 18 RC1/CMPA (io), 19 RC0/REFA (io), 20 VSS (power), 21 SUM (out), 22 CDAC (out), 23 RD7/AN7 (io), 24 RD6/AN6 (io), 25 RD5/AN5 (io), 26 RD4/AN4 (io), 27 RA3/AN3 (io), 28 RA2/AN2 (io)

## PIC14000T-20I/SO
designator U?
Programmable OTP-Based 8-Bit Mixed Signal Microcontroller, 20 MHz, 28-Pin SOIC, Industrial Temperature, Tape and Reel; Published: 11-Oct-2004; LatestRevisionDate: 13-Apr-2006; LatestRevisionNote: IPC-7351 Footprint Added.; DatasheetVersion: DS40122B_1996; PackageVersion: 2005; PackageReference: SOIC300-28; Publisher: Altium Limited; PackageDescription: 28-Pin Small Outline Integrated Circuit 1.27 mm Pitch; Code_JEDEC: MS-013; ComponentLink1Description: Manufacturer Link; ComponentLink1URL: http://www.microchip.com; ComponentLink2Description: Datasheet; ComponentLink2URL: http://ww1.microchip.com/downloads/en/DeviceDoc/40122b.pdf; ComponentLink3Description: Packaging Specification; ComponentLink3URL: http://ww1.microchip.com/downloads/en/PackagingSpec/00049AD.pdf
footprint SOIC300-28_N (SOIC, 28-Leads, Body 17.9x7.5mm, Pitch 1.27mm, IPC Medium Density)
footprint SOIC300-28_L (SOIC, 28-Leads, Body 17.9x7.5mm, Pitch 1.27mm, IPC High Density)
footprint SOIC300-28_M (SOIC, 28-Leads, Body 17.9x7.5mm, Pitch 1.27mm, IPC Low Density)
3D model SOIC300-28 (28-Pin Small Outline Integrated Circuit 1.27 mm Pitch)
pins: 1 RA1/AN1 (io), 2 RA0/AN0 (io), 3 RD3/REFB (io), 4 RD2/CMPB (io), 5 RD1/SDAB (io), 6 RD0/SCLB (io), 7 OSC2/CLKOUT (out), 8 OSC1/PBTN (in), 9 VDD (power), 10 VREG (out), 11 RC7/SDAA (io), 12 RC6/SCLA (io), 13 RC5 (io), 14 ~{MCLR}/VPP (in), 15 RC4 (io), 16 RC3/T0CKI (io), 17 RC2 (io), 18 RC1/CMPA (io), 19 RC0/REFA (io), 20 VSS (power), 21 SUM (out), 22 CDAC (out), 23 RD7/AN7 (io), 24 RD6/AN6 (io), 25 RD5/AN5 (io), 26 RD4/AN4 (io), 27 RA3/AN3 (io), 28 RA2/AN2 (io)

## PIC14000T-20I/SS
designator U?
Programmable OTP-Based 8-Bit Mixed Signal Microcontroller, 20 MHz, 28-Pin SSOP, Industrial Temperature, Tape and Reel; Published: 11-Oct-2004; LatestRevisionDate: 04-Mar-2005; LatestRevisionNote: Stylized 3D Model Added.; DatasheetVersion: DS40122B_1996; PackageVersion: 2005; PackageReference: SSOP-28; Publisher: Altium Limited; PackageDescription: SSOP, Plastic; 28 Leads; Body Width 5.2 mm; Pitch 0.65 mm; Code_JEDEC: MS-150; ComponentLink1Description: Manufacturer Link; ComponentLink1URL: http://www.microchip.com; ComponentLink2Description: Datasheet; ComponentLink2URL: http://ww1.microchip.com/downloads/en/DeviceDoc/40122b.pdf; ComponentLink3Description: Packaging Specification; ComponentLink3URL: http://ww1.microchip.com/downloads/en/PackagingSpec/00049AD.pdf
footprint SSOP-28 (SSOP, Plastic; 28 Leads; Body Width 5.2 mm; Pitch 0.65 mm)
3D model SSOP-28 (SSOP, Plastic; 28 Leads; Body Width 5.2 mm; Pitch 0.65 mm)
pins: 1 RA1/AN1 (io), 2 RA0/AN0 (io), 3 RD3/REFB (io), 4 RD2/CMPB (io), 5 RD1/SDAB (io), 6 RD0/SCLB (io), 7 OSC2/CLKOUT (out), 8 OSC1/PBTN (in), 9 VDD (power), 10 VREG (out), 11 RC7/SDAA (io), 12 RC6/SCLA (io), 13 RC5 (io), 14 ~{MCLR}/VPP (in), 15 RC4 (io), 16 RC3/T0CKI (io), 17 RC2 (io), 18 RC1/CMPA (io), 19 RC0/REFA (io), 20 VSS (power), 21 SUM (out), 22 CDAC (out), 23 RD7/AN7 (io), 24 RD6/AN6 (io), 25 RD5/AN5 (io), 26 RD4/AN4 (io), 27 RA3/AN3 (io), 28 RA2/AN2 (io)